# Altium schematic symbol library nanoArduino.SchLib: 9 symbols
Pins are listed as number, name and electrical type; pins without a type are passive.

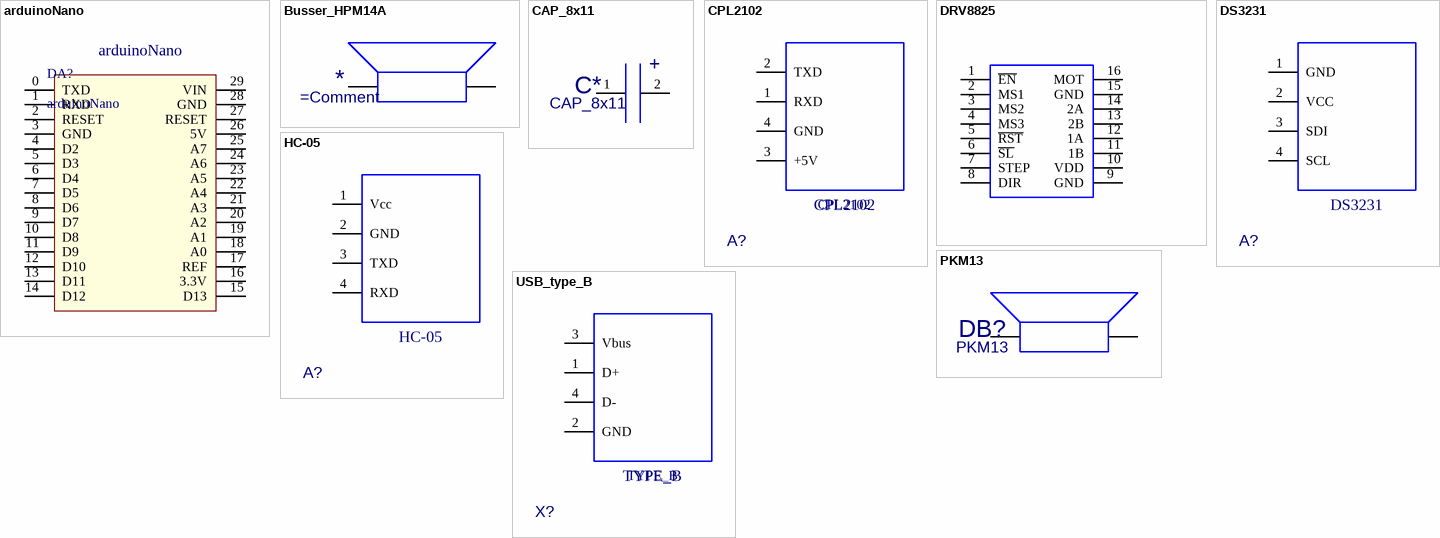
[diagram p0: symbols arduinoNano to USB_type_B]

## arduinoNano
designator DA?
footprint Arduino nano (arduino nano)
pins: 0 TXD, 1 RXD, 2 RESET, 3 GND, 4 D2, 5 D3, 6 D4, 7 D5, 8 D6, 9 D7, 10 D8, 11 D9, 12 D10, 13 D11, 14 D12, 15 D13, 16 3.3V, 17 REF, 18 A0, 19 A1, 20 A2, 21 A3, 22 A4, 23 A5, 24 A6, 25 A7, 26 5V, 27 RESET, 28 GND, 29 VIN

## Busser_HPM14A
designator *
=Description
footprint HPM14A (Busser)
pins: 1, 2

## CAP_8x11
designator C*
=Capasitor; Value: 470 мкФ; Voltage: 16 В; DType: Capasitor
footprint Cap_8x11
pins: 1, 2
text: +

## CPL2102
designator A?
Manufacturer: Texas Instruments; ValueBOM: Микросхема CPL2102 Texas Instruments; DType: Микросхема; ComponentLink1Description: Datasheet; ComponentLink1URL: c:\Dataseets\Микросхемы\По фирмам\Avago Technologies\HCPL-4100.pdf; Package: SOT23-6; ValueSch: CPL2102
footprint CP2102
pins: 1 RXD, 2 TXD, 3 +5V, 4 GND

## DRV8825
designator DA?
STEP Motor Driver; TemperatureOperating: -40°C to +85°C; Поставщик: Texas; FullName: Микросхема MAX1316ECM Maxim; ID: DRV8825; ComponentLink1Description: Ссылка на сайт производителя; ComponentLink2Description: Ссылка на сайт производителя; ComponentLink3Description: Ссылка на сайт производителя; HelpURL: D:\Local_view\PDM\Справочники\Перечень ЭРИ\Документация\max1316-max1326.pdf; Mounting: SMT; PackageType: PLS; Part Number: DRV8825; TemperatureStorage: -40°C to +85°C; Type: Микросхема
footprint A4899
pins: 1 ~{EN}, 2 MS1, 3 MS2, 4 MS3, 5 ~{RST}, 6 ~{SL}, 7 STEP, 8 DIR, 9 GND, 10 VDD, 11 1B, 12 1A, 13 2B, 14 2A, 15 GND, 16 MOT

## DS3231
designator A?
Manufacturer: Texas Instruments; ValueBOM: Микросхема DS3231 Texas Instruments; DType: Микросхема; ComponentLink1Description: Datasheet; ComponentLink1URL: c:\Dataseets\Микросхемы\По фирмам\Avago Technologies\HCPL-4100.pdf; Package: SOT23-6; ValueSch: DS3231
footprint DS3231
pins: 1 GND, 2 VCC, 3 SDI, 4 SCL

## HC-05
designator A?
Manufacturer: Texas Instruments; ValueBOM: Микросхема HC-05 Texas Instruments; DType: Микросхема; ComponentLink1Description: Datasheet; ComponentLink1URL: c:\Dataseets\Микросхемы\По фирмам\Avago Technologies\HCPL-4100.pdf; Package: SOT23-6; ValueSch: HC-05
footprint HC-05
pins: 1 Vcc, 2 GND, 3 TXD, 4 RXD

## PKM13
designator DB?
=Description
footprint PKM13 (Busser)
pins: 1, 2

## USB_type_B
designator X?, comment TYPE_B
USB_type_B; Manufacturer: Texas Instruments; ValueBOM: Микросхема TYPE_B Texas Instruments; DType: Микросхема; ComponentLink1Description: Datasheet; ComponentLink1URL: c:\Dataseets\Микросхемы\По фирмам\Avago Technologies\HCPL-4100.pdf; Package: SOT23-6; ValueSch: TYPE_B
footprint Type_B
pins: 1 D+, 2 GND, 3 Vbus, 4 D-